# EAGLE library part ACD8143 (library 0000 - @rsandor parts)
ADH-Tech 0.56” Tri-color 2-Digit Number Display
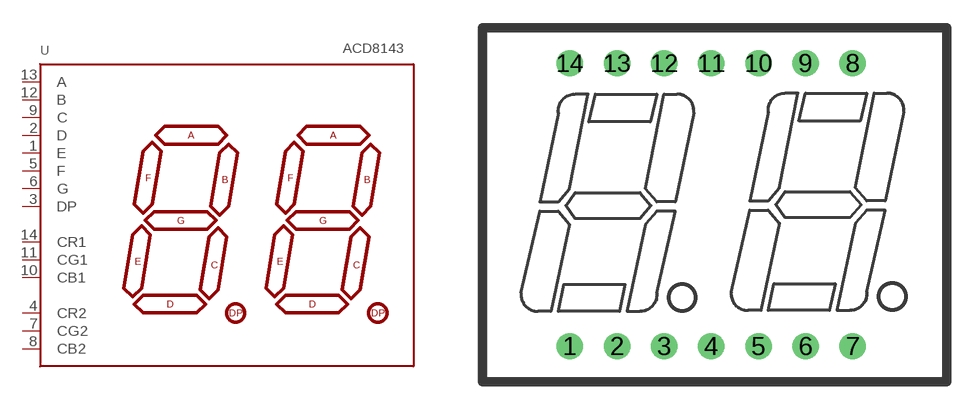
[diagram p1: symbol with the pads of ACD8143; footprint ACD8143]

Designator prefix -

## ACD8143  [ACD8143]
1  E
2  D
3  DP
4  CR2
5  F
6  G
7  CG2
8  CB2
9  C
10  CB1
11  CG1
12  B
13  A
14  CR1

## Footprint ACD8143 (pad centres in mm)
7 Segment display Storefront SKU#: COM-08546
drill 0.6 pad 1.422: 1 -7.62,-7.62; 2 -5.08,-7.62; 3 -2.54,-7.62; 4 0,-7.62; 5 2.54,-7.62; 6 5.08,-7.62; 7 7.62,-7.62; 8 7.62,7.62; 9 5.08,7.62; 10 2.54,7.62; 11 0,7.62; 12 -2.54,7.62; 13 -5.08,7.62; 14 -7.62,7.62